# Altium schematic symbol library 0PTF0078P.SchLib: 1 symbol
Pins are listed as number, name and electrical type; pins without a type are passive.

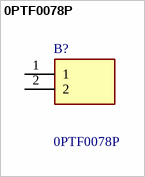
[diagram p0: symbol 0PTF0078P]

## 0PTF0078P
designator B?
FUSEHOLDER-OPEN 5X20MM UL94V0 PITCH 22/6; Manufacturer_Name: LITTELFUSE; Geometry.Height: 11.5mm; Mouser Part Number: 576-0PTF0078P; Mouser Price/Stock: https://www.mouser.co.uk/ProductDetail/Littelfuse/0PTF0078P?qs=Co4VkB5J4%2Fsczy6gG8s%2FsA%3D%3D; Manufacturer_Part_Number: 0PTF0078P; Datasheet Link: https://media.digikey.com/pdf/Data%20Sheets/Littelfuse%20PDFs/PTF075_77_78.pdf
footprint 0PTF0078P
pins: 1, 2